# EAGLE library part SPAX (library KMZ)
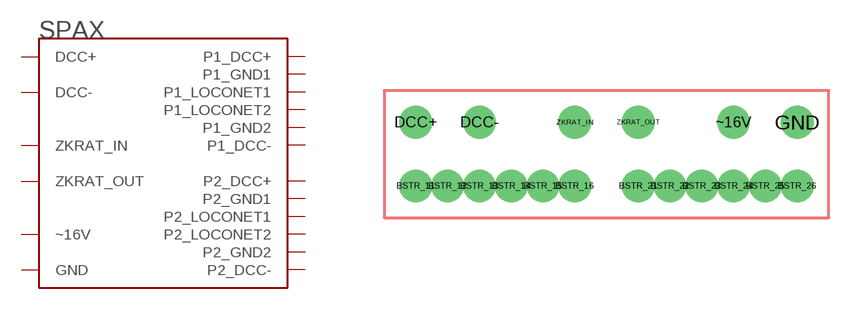
[diagram p0: symbol with the pads of SPAX; footprint SPAX]

Designator prefix SPAX

## SPAX  [SPAX]
BSTR_11  P1_DCC+
BSTR_12  P1_DCC-
BSTR_13  P1_GND1
BSTR_14  P1_GND2
BSTR_15  P1_LOCONET1
BSTR_16  P1_LOCONET2
BSTR_21  P2_DCC+
BSTR_22  P2_DCC-
BSTR_23  P2_GND1
BSTR_24  P2_GND2
BSTR_25  P2_LOCONET1
BSTR_26  P2_LOCONET2
DCC+  DCC+  out
DCC-  DCC-  out
GND  GND  in
ZKRAT_IN  ZKRAT_IN  in
ZKRAT_OUT  ZKRAT_OUT  out
~16V  ~16V  in

## Footprint SPAX (pad centres in mm)
drill 0.8 round: BSTR_11 -7.62,-1.27; BSTR_12 -6.35,-1.27; BSTR_13 -5.08,-1.27; BSTR_14 -3.81,-1.27; BSTR_15 -2.54,-1.27; BSTR_16 -1.27,-1.27; BSTR_21 1.27,-1.27; BSTR_22 2.54,-1.27; BSTR_23 3.81,-1.27; BSTR_24 5.08,-1.27; BSTR_25 6.35,-1.27; BSTR_26 7.62,-1.27; DCC+ -7.62,1.27; DCC- -5.08,1.27; GND 7.62,1.27; ZKRAT_IN -1.27,1.27; ZKRAT_OUT 1.27,1.27; ~16V 5.08,1.27